# Altium schematic symbol library Schlib1.SchLib: 1 symbol
Pins are listed as number, name and electrical type; pins without a type are passive.

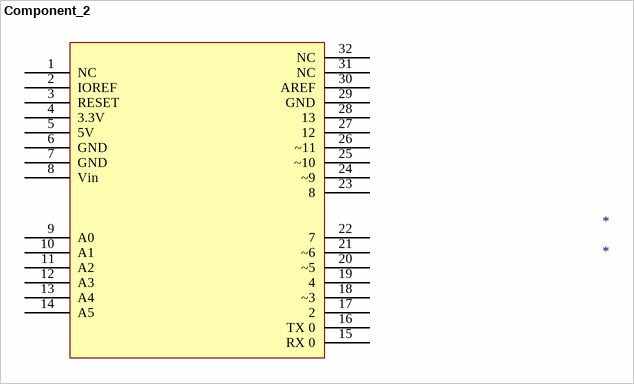
[diagram p0: symbol Component_2]

## Component_2
designator *
Name: Arduino UNO
pins: 1 NC, 2 IOREF, 3 RESET, 4 3.3V, 5 5V, 6 GND, 7 GND, 8 Vin, 9 A0, 10 A1, 11 A2, 12 A3, 13 A4, 14 A5, 15 RX 0, 16 TX 0, 17 2, 18 ~3, 19 4, 20 ~5, 21 ~6, 22 7, 23 8, 24 ~9, 25 ~10, 26 ~11, 27 12, 28 13, 29 GND, 30 AREF, 31 NC, 32 NC